# Altium footprint library Connector - DC_PORT.PcbLib: 6 footprints
Each footprint in its own frame and in the unit in brackets; x right, y up, seen from the top. Pads: shape width x height; smd on the part's side, far side on the other; paste and mask are expansions set on the pad; w line width, h text height; cw(c..) or ccw(c..) is an arc to the next point about the centre after c.
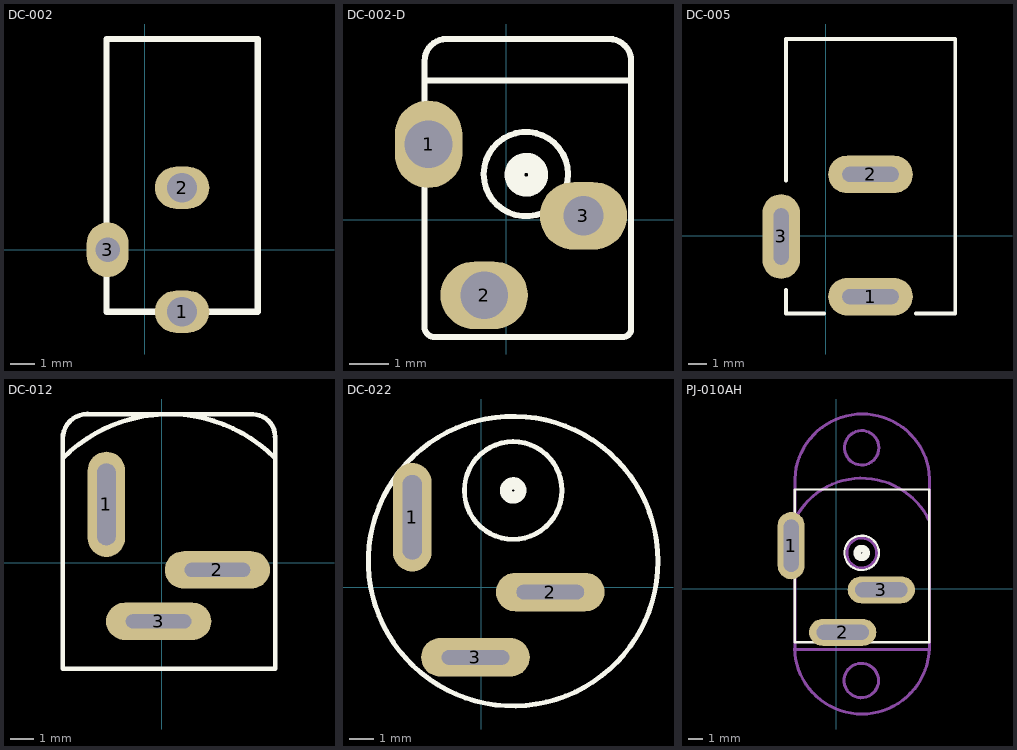
[diagram p0: the footprints below, top view; thin cyan lines are the x and y axes]

## DC-002 [mm] "DC-002,3.5-1.1mm"
pads (3):
  oval 2.2x1.7 hole 1.2: 1(1.5,-2.5) 2(1.5,2.5)
  oval 1.7x2.2 hole 1: 3(-1.5,0)
Top Overlay:
  lines w0.254: -1.548,-1.103 -1.548,-2.5 0.484,-2.5 ; -1.548,1.056 -1.548,8.5 4.548,8.5 4.548,-2.5 2.516,-2.5

## DC-002-D [mm] "DC-002,3.5-1.1mm"
pads (3):
  oval 1.7x2.2 hole 1.2: 1(-1.95,1.9)
  oval 2.2x1.7 hole 1.2: 2(-0.55,-1.9)
  oval 2.2x1.7 hole 1: 3(1.95,0.1)
Top Overlay:
  circle w0.5: c0.511,1.134 r0.3
  circle w0.152: c0.5,1.15 r1.061
  lines w0.152: -2.05,3.5 3.15,3.5 ; 2.6,4.55 cw(c2.6,4) 3.15,4 ; 2.65,4.55 -1.5,4.55 ccw(c-1.5,4) -2.05,4 -2.05,-2.701 ccw(c-1.801,-2.701) -1.801,-2.95 2.942,-2.95 ccw(c2.942,-2.742) 3.15,-2.742 3.15,4.05
3D body "DC.stp": height 11.72, standoff -3.28, extent -2.108,-2.888 2.942,4.412

## DC-005 [mm]
pads (3):
  oval 4.5x2 hole 0.8 slot 3 at 0 deg: 1(2.375,-3.25) 2(2.375,3.25)
  oval 2x4.5 hole 0.8 slot 3 at 90 deg: 3(-2.375,-0.05)
Top Overlay:
  lines w0.2: -2.125,-2.9 -2.125,-4.15 -0.1,-4.15 ; -2.125,2.925 -2.125,10.45 6.875,10.45 6.875,-4.15 4.786,-4.15
3D body "充电口.STEP": height 11, standoff -4, extent -2.325,-3.52 6.775,10.48

## DC-012 [mm]
pads (3):
  oval 1.6x4.5 hole 0.8 slot 3.5 at 90 deg: 1(-2.375,2.502)
  oval 4.5x1.6 hole 0.6 slot 2.8 at 0 deg: 2(2.375,-0.305) 3(-0.14,-2.502)
Top Overlay:
  lines w0.2: -4.246,5.33 -4.246,-4.534 4.843,-4.534 4.843,-0.714 ; -3.215,6.361 2.818,6.361 3.889,6.361 ; 4.843,-1.181 4.843,5.396
  lines w0.203: -4.246,4.47 cw(c0.303,-0.053) 4.826,4.496 ; -4.242,5.321 cw(c-3.192,5.317) -3.188,6.367 ; 3.892,6.351 cw(c3.889,5.396) 4.843,5.393

## DC-022 [mm]
pads (3):
  oval 1.6x4.5 hole 0.8 slot 3.5 at 90 deg: 1(-2.857,2.902)
  oval 4.5x1.6 hole 0.6 slot 2.8 at 0 deg: 2(2.857,-0.197) 3(-0.241,-2.902)
Top Overlay:
  circle w0.203: c1.321,1.086 r6
  circle w0.203: c1.321,4.013 r2.022
  circle w0.5: c1.321,4.013 r0.3

## PJ-010AH [mm]
pads (3):
  oval 1.8x4.5 hole 1 slot 3.5 at 90 deg: 1(-3.015,2.9)
  oval 4.5x1.8 hole 1 slot 3.5 at 0 deg: 2(0.436,-2.9) 3(3.015,-0.056)
Top Overlay:
  circle w0.152: c1.707,2.417 r1.15
  circle w0.5: c1.706,2.409 r0.3
  lines w0.152: -2.765,-3.556 6.223,-3.556 6.223,6.65 -2.765,6.65 -2.765,1 -2.765,-3.556
Mechanical 15:
  circle w0.203: c1.706,9.444 r1.15
  circle w0.203: c1.68,-6.126 r1.15
  circle w0.203: c1.706,2.409 r1
  lines w0.203: -2.79,-3.967 ccw(c1.719,-3.851) 6.227,-3.967 ; -2.759,4.667 cw(c1.706,2.409) 6.254,4.494 ; -2.765,-4.043 6.252,-4.043 6.252,7.387 ccw(c1.744,7.192) -2.765,7.387 -2.765,-4.043
3D body "pj-010ah_asm.stp": height 12.3, standoff -4, extent -3.348,-8.328 6.252,11.672